# Altium footprint library rf_detector_lib.PcbLib: 23 footprints (part 2 of 2)
Each footprint in its own frame and in the unit in brackets; x right, y up, seen from the top. Pads: shape width x height; smd on the part's side, far side on the other; paste and mask are expansions set on the pad; w line width, h text height; cw(c..) or ccw(c..) is an arc to the next point about the centre after c.
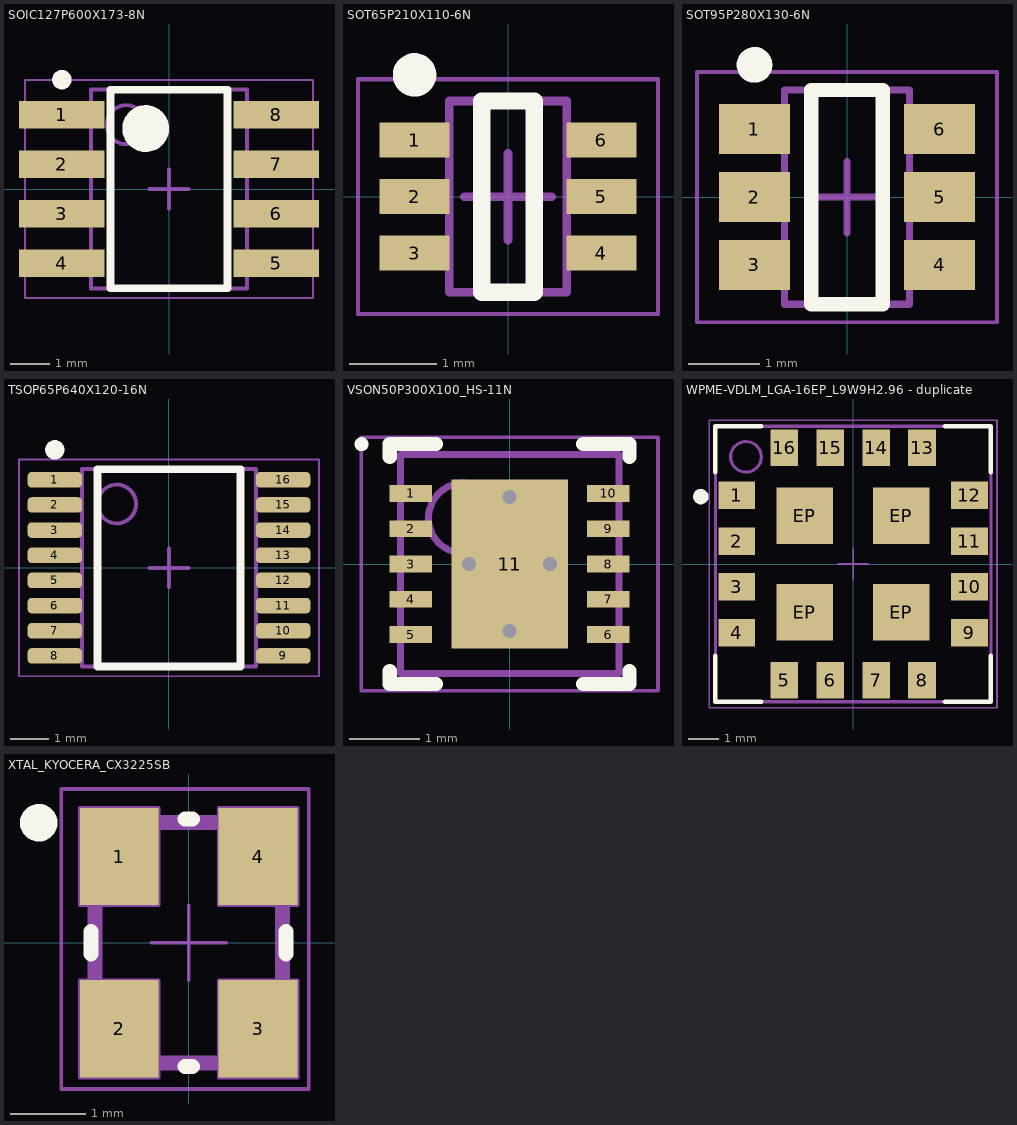
[diagram p1: the footprints below, top view; thin cyan lines are the x and y axes]

## SOIC127P600X173-8N [mm] "SOIC, 8-Leads, Body 4,93x3,90mm, Pitch 1,27mm, IPC Medium Density"
height 1.73
pads (8):
  rect 2.2x0.7 smd: 1(-2.75,1.905) 2(-2.75,0.635) 3(-2.75,-0.635) 4(-2.75,-1.905) 5(2.75,-1.905) 6(2.75,-0.635) 7(2.75,0.635) 8(2.75,1.905)
Top Overlay:
  circle w0.25: c-2.75,2.805 r0.125
  circle w0.6: c-0.6,1.55 r0.3
  lines w0.2: -1.5,-2.55 1.5,-2.55 1.5,2.55 -1.5,2.55 -1.5,-2.55
Top Courtyard:
  lines w0.05: -3.7,-2.8 -3.7,2.8 3.7,2.8 3.7,-2.8 -3.7,-2.8
  lines w0.1: -0.5,0 0.5,0 ; 0,-0.5 0,0.5
Top Assembly:
  circle w0.1: c-1.1,1.65 r0.5
  lines w0.1: -2,-2.55 -2,2.55 2,2.55 2,-2.55 -2,-2.55
3D body "SOIC127P600X173-8N.step": height 1.73, standoff 0, extent -2.995,-2.55 2.995,2.55

## SOT65P210X110-6N [mm] "SOT23, 6-Leads, Body 2,00x2,10mm, Pitch 0,65mm, IPC Medium Density"
height 1.1
pads (6):
  rect 0.8x0.4 smd: 1(-1.075,0.65) 2(-1.075,0) 3(-1.075,-0.65) 4(1.075,-0.65) 5(1.075,0) 6(1.075,0.65)
Top Overlay:
  circle w0.25: c-1.075,1.4 r0.125
  lines w0.2: -0.3,-1.1 -0.3,1.1 0.3,1.1 0.3,-1.1 -0.3,-1.1
Top Courtyard:
  lines w0.05: -1.725,-1.35 1.725,-1.35 1.725,1.35 -1.725,1.35 -1.725,-1.35
  lines w0.1: -0.5,0 0.5,0 ; 0,-0.5 0,0.5
Top Assembly:
  lines w0.1: -0.675,-1.1 0.675,-1.1 0.675,1.1 -0.675,1.1 -0.675,-1.1
3D body "SOT65P210X110-6N.step": height 1.1, standoff 0, extent -1.1,-1.1 1.1,1.1

## SOT95P280X130-6N [mm] "SOT23, 6-Leads, Body 2,90x2,80mm, Pitch 0,95mm, IPC Medium Density"
height 1.3
pads (6):
  rect 1x0.7 smd: 1(-1.295,0.95) 2(-1.295,0) 3(-1.295,-0.95) 4(1.295,-0.95) 5(1.295,0) 6(1.295,0.95)
Top Overlay:
  circle w0.25: c-1.295,1.85 r0.125
  lines w0.2: -0.5,-1.5 -0.5,1.5 0.5,1.5 0.5,-1.5 -0.5,-1.5
Top Courtyard:
  lines w0.05: -2.1,-1.75 2.1,-1.75 2.1,1.75 -2.1,1.75 -2.1,-1.75
  lines w0.1: -0.5,0 0.5,0 ; 0,-0.5 0,0.5
Top Assembly:
  lines w0.1: -0.875,-1.5 0.875,-1.5 0.875,1.5 -0.875,1.5 -0.875,-1.5
3D body "SOT95P280X130-6N.step": height 1.3, standoff 0, extent -1.5,-1.5 1.5,1.5

## TSOP65P640X120-16N [mm] "TSOP, 16-Leads, Body 5,00x4,40mm, Pitch 0,65mm, IPC Medium Density"
height 1.2
pads (16):
  rrect50% 1.4x0.4 smd: 1(-2.95,2.275) 2(-2.95,1.625) 3(-2.95,0.975) 4(-2.95,0.325) 5(-2.95,-0.325) 6(-2.95,-0.975) 7(-2.95,-1.625) 8(-2.95,-2.275) 9(2.95,-2.275) 10(2.95,-1.625) 11(2.95,-0.975) 12(2.95,-0.325) 13(2.95,0.325) 14(2.95,0.975) 15(2.95,1.625) 16(2.95,2.275)
Top Overlay:
  circle w0.25: c-2.95,3.05 r0.125
  lines w0.2: -1.85,-2.55 1.85,-2.55 1.85,2.55 -1.85,2.55 -1.85,-2.55
Top Courtyard:
  lines w0.05: -3.875,-2.8 3.875,-2.8 3.875,2.8 -3.875,2.8 -3.875,-2.8
  lines w0.1: -0.5,0 0.5,0 ; 0,-0.5 0,0.5
Top Assembly:
  circle w0.1: c-1.35,1.65 r0.5
  lines w0.1: -2.25,-2.55 2.25,-2.55 2.25,2.55 -2.25,2.55 -2.25,-2.55
3D body "TSOP65P640X120-16N.step": height 1.2, standoff 0, extent -3.2,-2.55 3.2,2.55

## VSON50P300X100_HS-11N [mm] "VSON, 10-Leads, Body 3,00x3,00mm, Pitch 0,50mm, Thermal Pad 1,60x0,89mm, IPC Medium Density"
height 1
pads (11):
  rect 0.6x0.24 smd: 1(-1.4,1) 2(-1.4,0.5) 3(-1.4,0) 4(-1.4,-0.5) 5(-1.4,-1) 6(1.4,-1) 7(1.4,-0.5) 8(1.4,0) 9(1.4,0.5) 10(1.4,1)
  rect 1.65x2.4 smd: 11(0,0)
via 0.575,0 diameter 0.45 hole 0.2
via -0.575,0 diameter 0.45 hole 0.2
via 0,0.95 diameter 0.45 hole 0.2
via 0,-0.95 diameter 0.45 hole 0.2
Top Overlay:
  circle w0.1: c-2.1,1.7 r0.05
  lines w0.2: -1.7,-1.52 -1.7,-1.7 -1.045,-1.7 ; -1.7,1.52 -1.7,1.7 -1.045,1.7 ; 1.045,-1.7 1.7,-1.7 1.7,-1.52 ; 1.045,1.7 1.7,1.7 1.7,1.52
Top Courtyard:
  lines w0.05: -2.105,-1.8 2.105,-1.8 2.105,1.8 -2.105,1.8 -2.105,-1.8
  lines w0.1: -0.5,0 0.5,0 ; 0,-0.5 0,0.5
Top Assembly:
  circle w0.1: c-0.65,0.65 r0.5
  lines w0.1: -1.55,-1.55 1.55,-1.55 1.55,1.55 -1.55,1.55 -1.55,-1.55
3D body "VSON50P300X100_HS-11N.step": height 1, standoff 0, extent -1.63,-1.55 1.63,1.55

## WPME-VDLM_LGA-16EP_L9W9H2.96 - duplicate [mm] "Variable Step Down Regulator Module, LGA-16EP, body 9.00x9.00mm"
height 2.96
pads (20):
  rect 1.2x0.9 smd paste-0.025: 1(-3.8,2.25) 2(-3.8,0.75) 3(-3.8,-0.75) 4(-3.8,-2.25) 9(3.8,-2.25) 10(3.8,-0.75) 11(3.8,0.75) 12(3.8,2.25)
  rect 0.9x1.2 smd paste-0.025: 5(-2.25,-3.8) 6(-0.75,-3.8) 7(0.75,-3.8) 8(2.25,-3.8) 13(2.25,3.8) 14(0.75,3.8) 15(-0.75,3.8) 16(-2.25,3.8)
  rect 1.85x1.85 smd paste-0.1: EP(-1.575,-1.575) EP(-1.575,1.575) EP(1.575,-1.575) EP(1.575,1.575)
Top Overlay:
  circle w0.25: c-4.975,2.2 r0.125
  lines w0.15: -4.5,-3 -4.5,-4.5 -3,-4.5 ; -4.5,3 -4.5,4.5 -3,4.5 ; 3,-4.5 4.5,-4.5 4.5,-3 ; 3,4.5 4.5,4.5 4.5,3
Top 3D Body:
  circle w0.1: c-3.5,3.5 r0.5
  lines w0.1: -4.5,-4.5 -4.5,4.5 4.5,4.5 4.5,-4.5 -4.5,-4.5
Top Courtyard:
  lines w0.05: -0.5,0 0.5,0 ; 0,-0.5 0,0.5 ; -4.7,-4.7 4.7,-4.7 4.7,4.7 -4.7,4.7 -4.7,-4.7
Top Designator:
Top Component Outline:
  circle w0.1: c-3.5,3.5 r0.5
  lines w0.1: -4.5,-4.5 -4.5,4.5 4.5,4.5 4.5,-4.5 -4.5,-4.5
3D body "171031801.stp": height 3, standoff 0.04, extent -4.5,-4.5 4.5,4.5

## XTAL_KYOCERA_CX3225SB [mm] "SMD Crystal Kyocera, 4 Pin, 3.2mm L X 2.5mm W X 0.6mm H"
height 0.6
pads (4):
  rect 1.05x1.3 smd: 1(-0.925,1.15) 2(-0.925,-1.15) 3(0.925,-1.15) 4(0.925,1.15)
Top Overlay:
  circle w0.25: c-2,1.6 r0.125
  lines w0.2: -1.3,-0.15 -1.3,0.15 ; -0.05,-1.65 0.05,-1.65 ; -0.05,1.65 0.05,1.65 ; 1.3,-0.15 1.3,0.15
Mechanical 8:
  lines w0.05: -1.425,-1.15 -0.925,-1.15 ; -1.425,1.15 -0.925,1.15 ; -0.925,-1.65 -0.925,-1.15 ; -0.925,-0.65 -0.925,-1.15 ; -0.925,0.65 -0.925,1.15 ; -0.925,1.65 -0.925,1.15 ; -0.5,0 0,0 ; -0.425,-1.15 -0.925,-1.15 ; -0.425,1.15 -0.925,1.15 ; 0,-0.5 0,0 ; 0,0.5 0,0 ; 0.425,-1.15 0.925,-1.15 ; 0.425,1.15 0.925,1.15 ; 0.5,0 0,0 ; 0.925,-1.65 0.925,-1.15 ; 0.925,-0.65 0.925,-1.15 ; 0.925,0.65 0.925,1.15 ; 0.925,1.65 0.925,1.15 ; 1.425,-1.15 0.925,-1.15 ; 1.425,1.15 0.925,1.15 ; -1.45,-1.8 -0.4,-1.8 -0.4,-0.5 -1.45,-0.5 -1.45,-1.8 ; -1.45,0.5 -1.45,1.8 -0.4,1.8 -0.4,0.5 -1.45,0.5 ; 0.4,-1.8 1.45,-1.8 1.45,-0.5 0.4,-0.5 0.4,-1.8 ; 0.4,0.5 1.45,0.5 1.45,1.8 0.4,1.8 0.4,0.5
Mechanical 14:
  lines w0.1: -1.3,-1.45 cw(c-1.3,-1.65) -1.1,-1.65 1.1,-1.65 cw(c1.3,-1.65) 1.3,-1.45 1.3,1.45 cw(c1.3,1.65) 1.1,1.65 -1.1,1.65 cw(c-1.3,1.65) -1.3,1.45 -1.3,-1.45 ; -1.2,-1.15 ccw(c-0.8,-1.15) -0.8,-1.55 0.8,-1.55 ccw(c0.8,-1.15) 1.2,-1.15 1.2,1.15 ccw(c0.8,1.15) 0.8,1.55 -0.8,1.55 ccw(c-0.8,1.15) -1.2,1.15 -1.2,-1.15
Mechanical 15:
  lines w0.05: -1.7,-1.95 -1.7,2.05 1.6,2.05 1.6,-1.95 -1.7,-1.95
3D body "XTAL_KYOCERA_CX3225SB.stp": height 0.6, standoff 0, extent -1.3,-1.65 1.3,1.65